# Altium schematic symbol library HJ-185IMH 原理图库.SchLib: 1 symbol
Pins are listed as number, name and electrical type; pins without a type are passive.

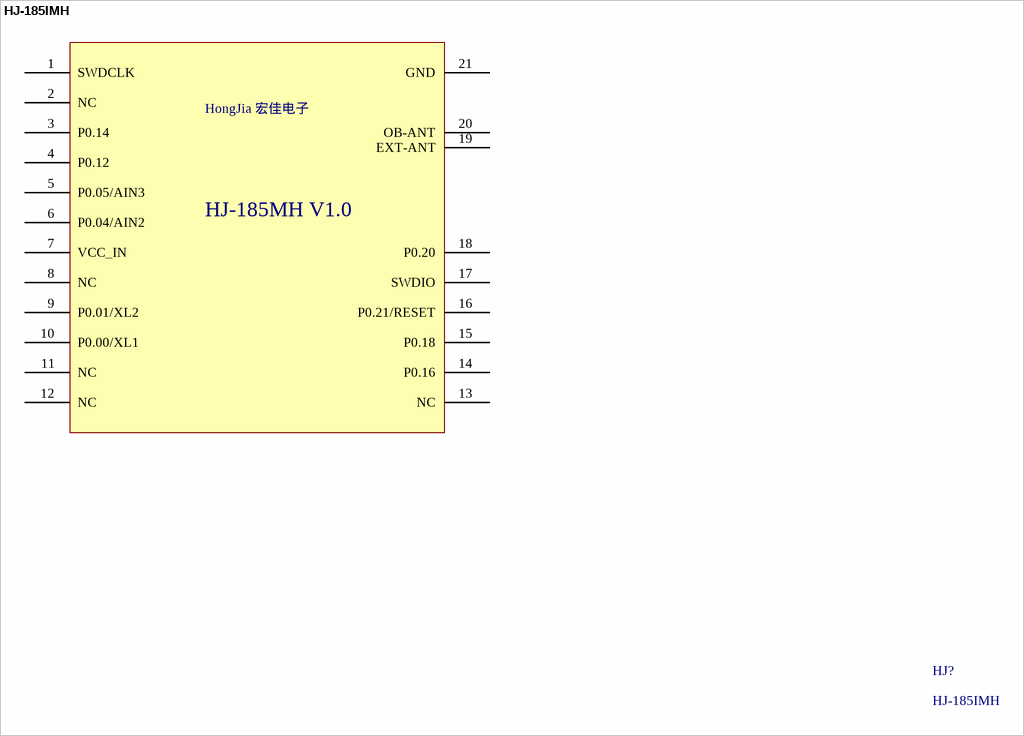
[diagram p0: symbol HJ-185IMH]

## HJ-185IMH
designator HJ?
footprint HJ-185MH(LGA21) (Footprint not found)
pins: 1 SWDCLK (power), 2 NC (power), 3 P0.14 (power), 4 P0.12 (power), 5 P0.05/AIN3 (power), 6 P0.04/AIN2 (power), 7 VCC_IN (power), 8 NC (power), 9 P0.01/XL2 (power), 10 P0.00/XL1 (power), 11 NC (power), 12 NC (power), 13 NC (power), 14 P0.16 (power), 15 P0.18 (power), 16 P0.21/RESET (power), 17 SWDIO (power), 18 P0.20 (power), 19 EXT-ANT (power), 20 OB-ANT (power), 21 GND (power)
text: HongJia 宏佳电子; HJ-185MH V1.0